# EAGLE library part CY14E256LA-SZ45XI (library Cypress_By_element14_Batch_1)
256-Kbit (32 K × 8) Non-volatile SRAM
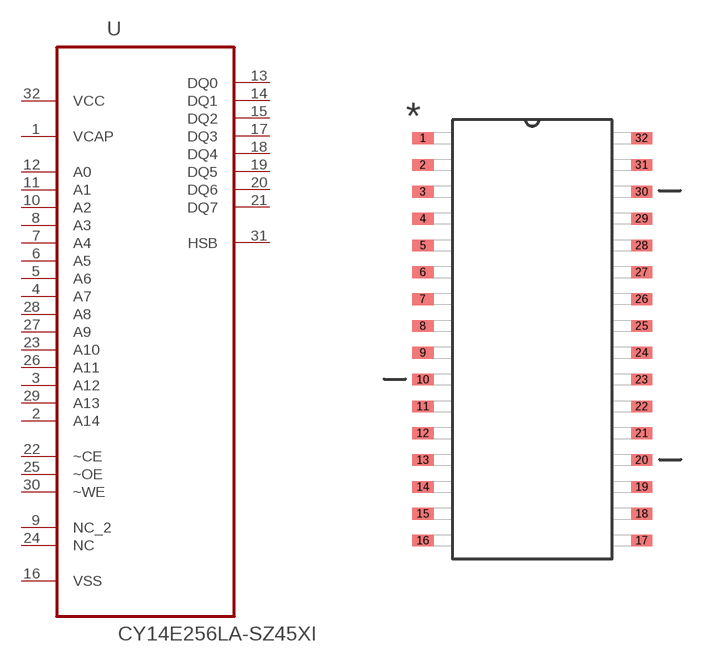
[diagram p1: symbol with the pads of SOIC127P1047X254-32N; footprint SOIC127P1047X254-32N]

Designator prefix U

## CY14E256LA-SZ45XI (DESCRIPTION: 256-Kbit (32 K × 8) Non-volatile SRAM; MPN: CY14E256LA-SZ45XI; OC_FARNELL: 1895645; OC_NEWARK: 50R9218; PACKAGE: SOIC-32; SUPPLIER: CYPRESS SEMICONDUCTOR)  [SOIC127P1047X254-32N]
1  VCAP  pas
2  A14  in
3  A12  in
4  A7  in
5  A6  in
6  A5  in
7  A4  in
8  A3  in
9  NC_2  nc
10  A2  in
11  A1  in
12  A0  in
13  DQ0
14  DQ1
15  DQ2
16  VSS  pas
17  DQ3
18  DQ4
19  DQ5
20  DQ6
21  DQ7
22  ~CE  in
23  A10  in
24  NC  nc
25  ~OE  in
26  A11  in
27  A9  in
28  A8  in
29  A13  in
30  ~WE  in
31  HSB
32  VCC  pwr

## Footprint SOIC127P1047X254-32N (pad centres in mm)
smd 1.016 x 0.559: 1 -5.182,9.525; 2 -5.182,8.255; 3 -5.182,6.985; 4 -5.182,5.715; 5 -5.182,4.445; 6 -5.182,3.175; 7 -5.182,1.905; 8 -5.182,0.635; 9 -5.182,-0.635; 10 -5.182,-1.905; 11 -5.182,-3.175; 12 -5.182,-4.445; 13 -5.182,-5.715; 14 -5.182,-6.985; 15 -5.182,-8.255; 16 -5.182,-9.525; 17 5.182,-9.525; 18 5.182,-8.255; 19 5.182,-6.985; 20 5.182,-5.715; 21 5.182,-4.445; 22 5.182,-3.175; 23 5.182,-1.905; 24 5.182,-0.635; 25 5.182,0.635; 26 5.182,1.905; 27 5.182,3.175; 28 5.182,4.445; 29 5.182,5.715; 30 5.182,6.985; 31 5.182,8.255; 32 5.182,9.525